# Altium footprint library logo.PcbLib: 1 footprints
Each footprint in its own frame and in the unit in brackets; x right, y up, seen from the top. Pads: shape width x height; smd on the part's side, far side on the other; paste and mask are expansions set on the pad; w line width, h text height; cw(c..) or ccw(c..) is an arc to the next point about the centre after c.
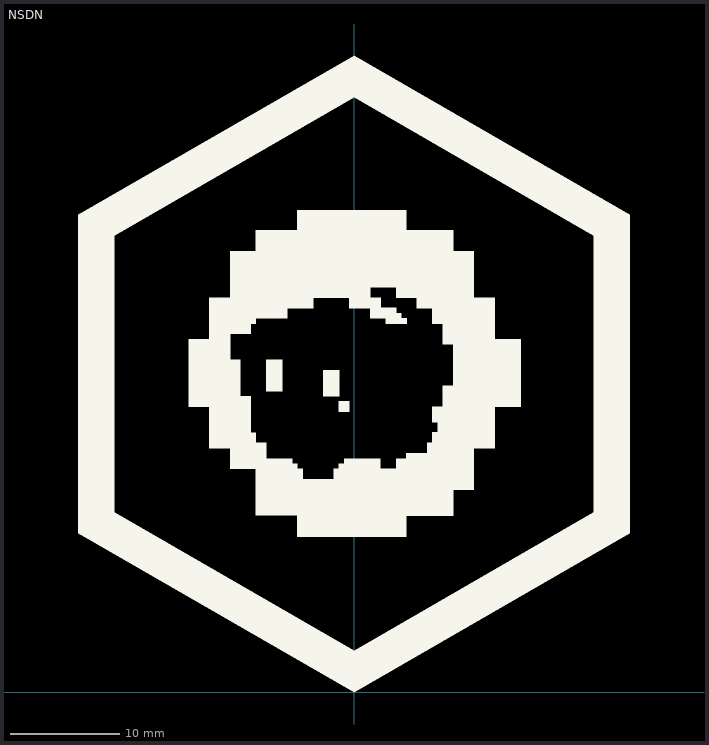
[diagram p0: the footprint, top view; thin cyan lines are the x and y axes]

## NSDN [mm]
Top Overlay:
  region: -25.298,43.815 -25.298,14.605 -21.996,16.51 -21.996,16.891 -21.996,41.91 0,54.61 0,58.42
  region: 0,58.42 25.298,43.815 25.298,14.605 21.996,16.51 21.996,41.91 0,54.61
  region: -21.996,16.51 -25.298,14.605 0,0 25.298,14.605 21.996,16.51 0,3.81
  region: -15.189,32.41 -13.284,32.41 -11.379,32.893 -11.379,30.505 -10.439,30.505 -10.439,27.153 -15.189,26.213
  region: -10.439,27.153 -15.189,26.213 -13.284,26.213 -13.284,22.403 -11.379,22.403 -11.379,20.498 -9.017,20.498 -9.017,16.231 -5.207,16.231 -5.207,20.98 -5.664,20.98 -5.664,21.438 -6.655,21.438 -8.052,21.438 -8.052,22.885 -9.017,22.885 -9.017,23.825 -9.474,23.825 -9.474,27.153
  region: -5.207,20.498 -5.207,14.249 4.801,14.249 4.801,16.205 9.093,16.205 9.093,18.593 10.998,18.593 10.998,22.403 12.903,22.403 12.903,26.213 15.291,26.213 15.291,32.41 12.903,32.41 9.093,31.928 9.093,28.118 8.128,28.118 8.128,26.213 7.188,26.213 7.188,24.79 7.671,24.79 7.671,23.851 7.188,23.851 7.188,22.885 6.706,22.885 6.706,21.92 4.801,21.92 4.801,21.45 3.861,21.45 3.861,20.498 2.413,20.498 2.413,21.45 -0.914,21.45 -0.914,20.98 -1.397,20.98 -1.397,20.498 -1.854,20.498 -1.854,19.533 -4.724,19.533 -4.724,20.498
  region: -13.259,32.512
  region: -13.284,32.41 -13.284,36.22 -11.379,36.22 -11.379,40.488 -9.017,40.488 -9.017,42.393 -5.207,42.393 -5.207,44.247 4.801,44.247 4.801,42.393 9.093,42.393 9.093,40.488 10.998,40.488 10.998,36.22 12.903,36.22 12.903,32.41 9.093,31.928 8.128,31.928 8.128,33.833 7.188,33.833 7.188,35.255 5.766,35.255 5.766,36.22 3.861,36.22 3.861,37.16 1.473,37.16 1.473,36.22 2.438,36.22 2.438,35.281 3.861,35.281 3.861,34.798 4.331,34.798 4.331,34.315 4.826,34.315 4.826,33.833 2.896,33.833 2.896,34.315 1.473,34.315 1.473,35.255 -0.432,35.255 -0.432,36.22 -3.759,36.22 -3.759,35.255 -6.147,35.255 -6.147,34.315 -9.017,34.315 -9.017,33.833 -9.474,33.833 -9.474,32.893 -11.379,32.893
  region: -8.052,30.505 -8.052,27.635 -6.604,27.635 -6.604,30.505
  region: -2.819,29.566 -2.819,27.165 -1.372,27.165 -1.372,29.566
  region: -1.397,26.695 -1.397,25.73 -0.432,25.73 -0.432,26.695